# Altium schematic symbol library Quartz.SchLib: 2 symbols
Pins are listed as number, name and electrical type; pins without a type are passive.

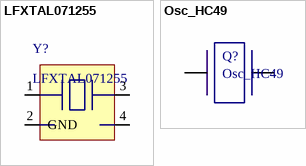
[diagram p0: symbols LFXTAL071255 to Osc_HC49]

## LFXTAL071255
designator Y?
Quartz 16MHz 10pF CMS 4P ~2x1.6mm; Manufacturer: IQD; Supplier 1: Farnell; Manufacturer Part Number: LFXTAL071255; ComponentLink1Url: http://www.farnell.com/datasheets/2080670.pdf; ComponentLink1Description: Datasheet; Supplier Part Number 1: 2612484
footprint LFXTAL071255 (Chip L4-lead, 2mm x 1.6mm)
pins: 1, 2 GND (power), 3, 4 GND (power)

## Osc_HC49
designator Q?
footprint HC49
pins: 1, 2